# EAGLE library part 1.8TFT_CHI (library MakeItLabs)
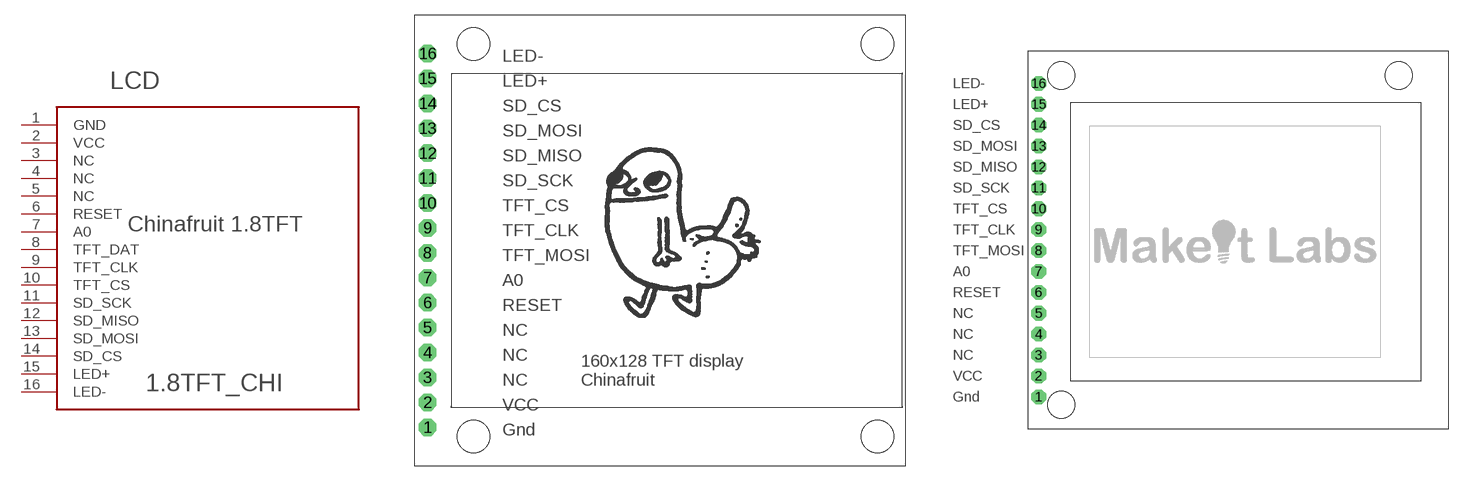
[diagram p14: symbol with the pads of 1.8TFT_CHI; footprints 1.8TFT_CHI, 1.8TFT_CHI_2.0]

Designator prefix LCD

## 1.8TFT_CHI  [1.8TFT_CHI]
1  GND
2  VCC
3  NC
4  NC
5  NC
6  RESET
7  A0
8  TFT_DAT
9  TFT_CLK
10  TFT_CS
11  SD_SCK
12  SD_MISO
13  SD_MOSI
14  SD_CS
15  LED+
16  LED-

## 1.8TFT_CHI2.0  [1.8TFT_CHI_2.0]
Pads as for 1.8TFT_CHI

## Footprint 1.8TFT_CHI (pad centres in mm)
drill 1.016 pad 1.778 octagon: 1 -25.4,-19.05; 2 -25.4,-16.51; 3 -25.4,-13.97; 4 -25.4,-11.43; 5 -25.4,-8.89; 6 -25.4,-6.35; 7 -25.4,-3.81; 8 -25.4,-1.27; 9 -25.4,1.27; 10 -25.4,3.81; 11 -25.4,6.35; 12 -25.4,8.89; 13 -25.4,11.43; 14 -25.4,13.97; 15 -25.4,16.51; 16 -25.4,19.05
hole 3.3 at 20.45,20
hole 3.3 at 20.45,-20
hole 3.3 at -20.7,-20
hole 3.3 at -20.7,20

## Footprint 1.8TFT_CHI_2.0 (pad centres in mm)
drill 1.016 pad 1.778 octagon: 1 -23.85,-18.85; 2 -23.85,-16.31; 3 -23.85,-13.77; 4 -23.85,-11.23; 5 -23.85,-8.69; 6 -23.85,-6.15; 7 -23.85,-3.61; 8 -23.85,-1.07; 9 -23.85,1.47; 10 -23.85,4.01; 11 -23.85,6.55; 12 -23.85,9.09; 13 -23.85,11.63; 14 -23.85,14.17; 15 -23.85,16.71; 16 -23.85,19.25
hole 3.3 at 19.9,20.2
hole 3.3 at -21.1,-19.8
hole 3.3 at -21.1,20.2